# Altium integrated library NSC MiscPower.IntLib: 1417 symbols (part 39 of 39)
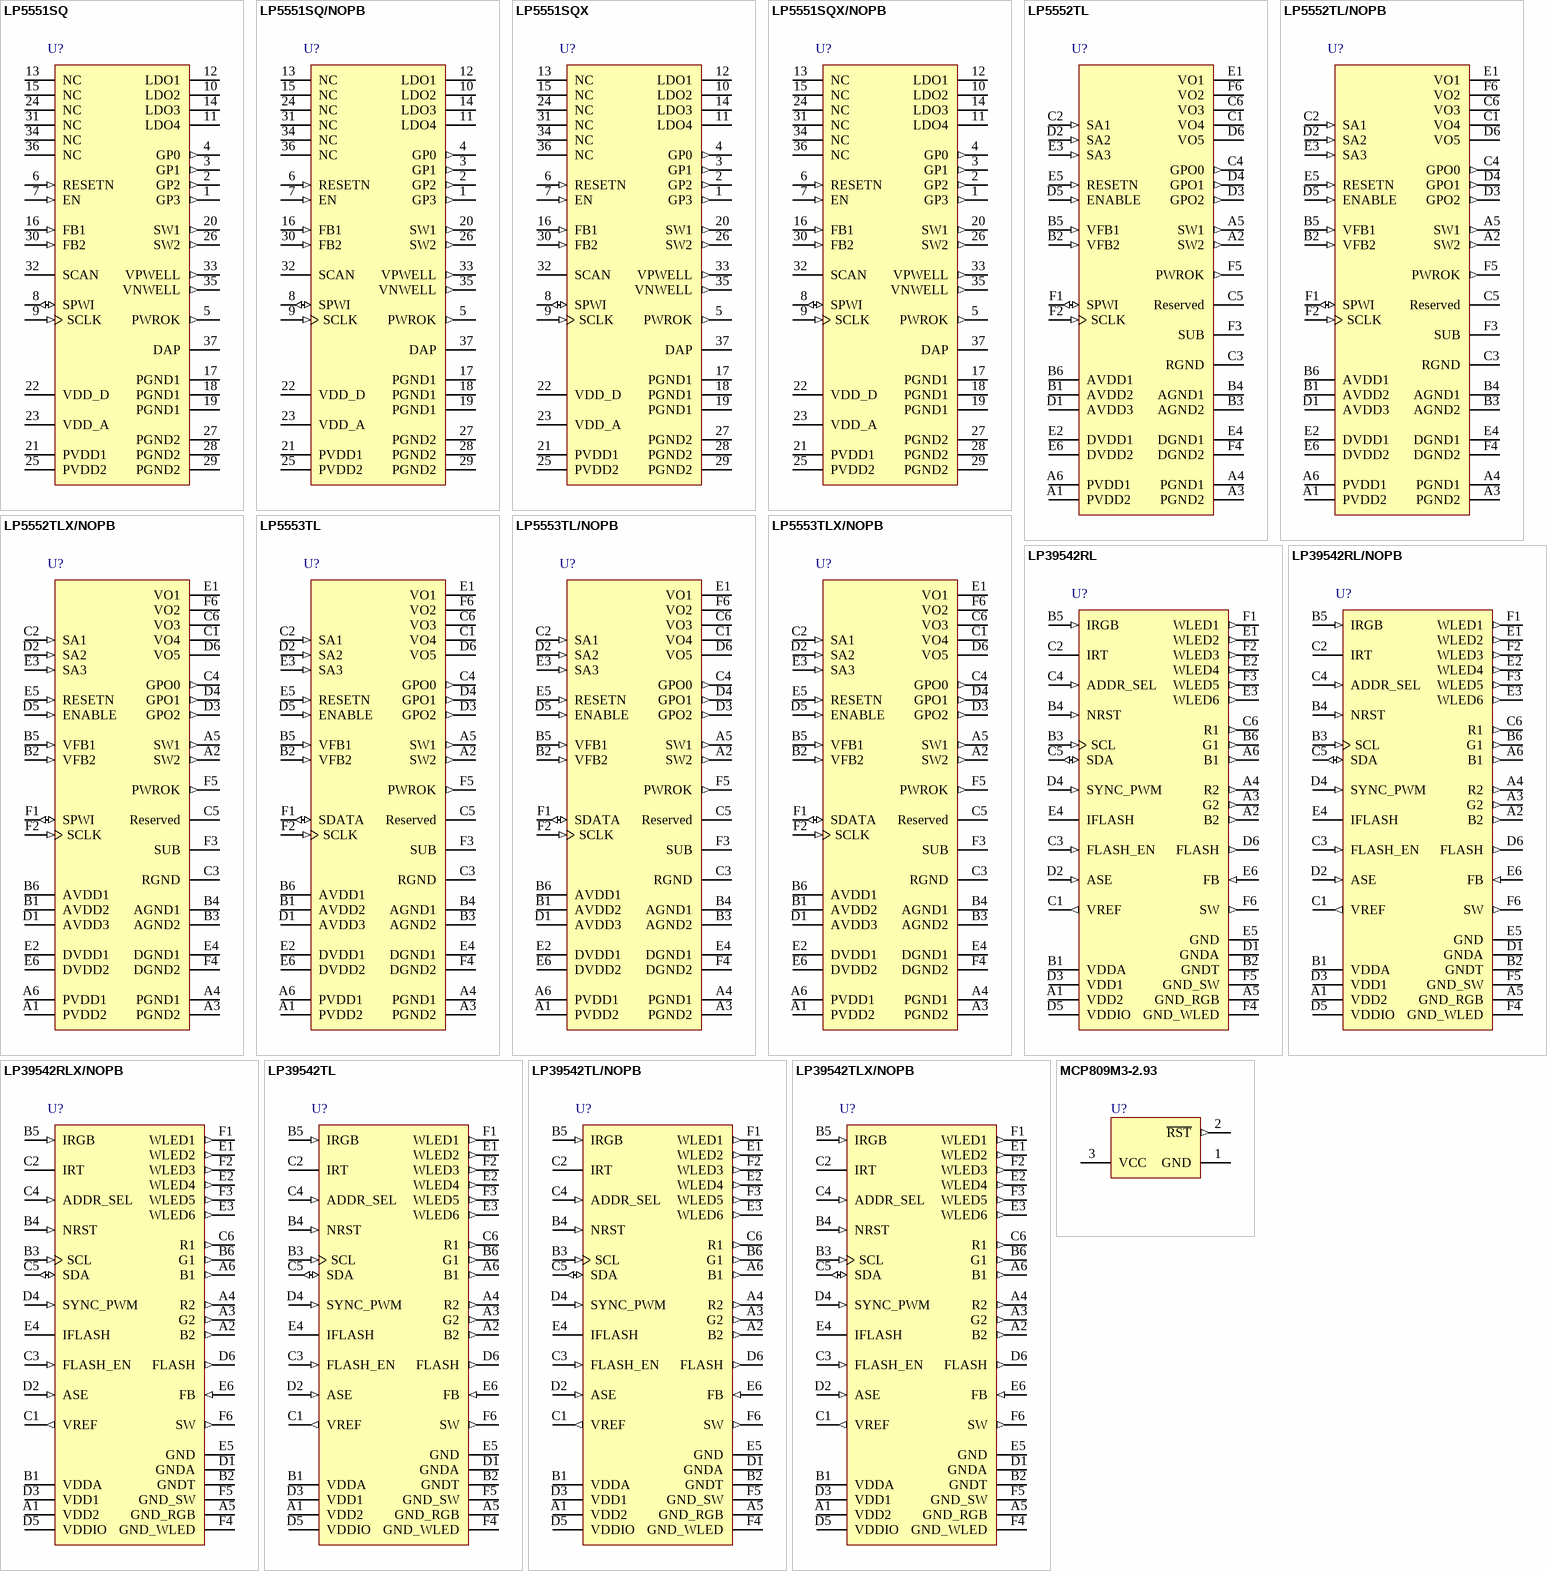
[diagram p89: symbols LP5551SQ to MCP809M3-2.93]

## LP39542TL/NOPB
designator U?
Advanced Lighting Management Unit, 36-pin Micro SMD, Pb-Free; PartNumber: LP39542TL/NOPB; Manufacturer: National Semiconductor; PackageTopMarking: XYTT*I D58B; PowerWise: Y; CompType: MiscPower; Published: 1-Mar-2010; DatasheetVersion: Aug-2007; PackageVersion: revC, Dec-2003; PackageReference: TLA36AAA; Publisher: Altium Limited; PackageDescription: Thin Micro SMD, 36 Bump (Large), 0.5mm Pitch; Supplier 1: Digi-Key; Supplier Part Number 1: LP39542TLTR-ND; Supplier 2: Digi-Key; Supplier Part Number 2: LP39542TLCT-ND; Supplier 3: Digi-Key; Supplier Part Number 3: LP39542TLDKR-ND; RoHS: Y; PinCount: 36; Code_JEDEC: MO-211-DK; ComponentLink1Description: LP39542 Datasheet; ComponentLink1URL: http://www.national.com/ds/LP/LP39542.pdf; ComponentLink2Description: LP39542 Web Page; ComponentLink2URL: http://www.national.com/pf/LP/LP39542.html; ComponentLink3Description: TLA36AAA Package Page; ComponentLink3URL: http://www.national.com/packaging/folders/tla36aaa.html
footprint TLA36AAA (Micro SMD, 36-Leads, Body 3x3mm, Pitch 0.5mm, NSC Recommended)
pins: A1 VDD2 (power), A2 B2 (out), A3 G2 (out), A4 R2 (out), A5 GND_RGB (power), A6 B1 (out), B1 VDDA (power), B2 GNDT (power), B3 SCL (in), B4 NRST (in), B5 IRGB (in), B6 G1 (out), C1 VREF (out), C2 IRT, C3 FLASH_EN (in), C4 ADDR_SEL (in), C5 SDA (io), C6 R1 (out), D1 GNDA (power), D2 ASE (in), D3 VDD1 (power), D4 SYNC_PWM (in), D5 VDDIO (power), D6 FLASH (out), E1 WLED2 (out), E2 WLED4 (out), E3 WLED6 (out), E4 IFLASH, E5 GND (power), E6 FB (in), F1 WLED1 (out), F2 WLED3 (out), F3 WLED5 (out), F4 GND_WLED (power), F5 GND_SW (power), F6 SW (out)

## LP39542TLX/NOPB
designator U?
Advanced Lighting Management Unit, 36-pin Micro SMD, Pb-Free; PartNumber: LP39542TLX/NOPB; Manufacturer: National Semiconductor; PackageTopMarking: XYTT*I D58B; PowerWise: Y; CompType: MiscPower; Published: 1-Mar-2010; DatasheetVersion: Aug-2007; PackageVersion: revC, Dec-2003; PackageReference: TLA36AAA; Publisher: Altium Limited; PackageDescription: Thin Micro SMD, 36 Bump (Large), 0.5mm Pitch; Supplier 1: Digi-Key; Supplier Part Number 1: LP39542TLX-ND; RoHS: Y; PinCount: 36; Code_JEDEC: MO-211-DK; ComponentLink1Description: LP39542 Datasheet; ComponentLink1URL: http://www.national.com/ds/LP/LP39542.pdf; ComponentLink2Description: LP39542 Web Page; ComponentLink2URL: http://www.national.com/pf/LP/LP39542.html; ComponentLink3Description: TLA36AAA Package Page; ComponentLink3URL: http://www.national.com/packaging/folders/tla36aaa.html
footprint TLA36AAA (Micro SMD, 36-Leads, Body 3x3mm, Pitch 0.5mm, NSC Recommended)
pins: A1 VDD2 (power), A2 B2 (out), A3 G2 (out), A4 R2 (out), A5 GND_RGB (power), A6 B1 (out), B1 VDDA (power), B2 GNDT (power), B3 SCL (in), B4 NRST (in), B5 IRGB (in), B6 G1 (out), C1 VREF (out), C2 IRT, C3 FLASH_EN (in), C4 ADDR_SEL (in), C5 SDA (io), C6 R1 (out), D1 GNDA (power), D2 ASE (in), D3 VDD1 (power), D4 SYNC_PWM (in), D5 VDDIO (power), D6 FLASH (out), E1 WLED2 (out), E2 WLED4 (out), E3 WLED6 (out), E4 IFLASH, E5 GND (power), E6 FB (in), F1 WLED1 (out), F2 WLED3 (out), F3 WLED5 (out), F4 GND_WLED (power), F5 GND_SW (power), F6 SW (out)

## MCP809M3-2.93
designator U?
Microprocessor Reset Circuit, 2.93V Threshold, 3-pin SOT-23; PartNumber: MCP809M3-2.93; Manufacturer: National Semiconductor; PackageTopMarking: SRB*XTT; PowerWise: N; CompType: MiscPower; Published: 29-May-2009; DatasheetVersion: Jun-2001; PackageVersion: revB, Mar-2003; PackageReference: MF03A; Publisher: Altium Limited; PackageDescription: Molded SOT-23, .115 x .051 x .037in Body, 3 Lead, .075 in Pitch; RoHS: N; PinCount: 3; ComponentLink1Description: MCP809 Datasheet; ComponentLink1URL: http://www.national.com/ds/MC/MCP809.pdf; ComponentLink2Description: MCP809 Web Page; ComponentLink2URL: http://www.national.com/pf/MC/MCP809.html; ComponentLink3Description: MF03A Package Page; ComponentLink3URL: http://www.national.com/packaging/folders/mf03a.html
footprint MF03A_N (SOT23, 3-Leads, Body 2.9x1.3mm, Pitch 0.95mm, Lead Span 2.4mm, IPC Medium Density)
footprint MF03A_L (SOT23, 3-Leads, Body 2.9x1.3mm, Pitch 0.95mm, Lead Span 2.4mm, IPC High Density)
footprint MF03A_M (SOT23, 3-Leads, Body 2.9x1.3mm, Pitch 0.95mm, Lead Span 2.4mm, IPC Low Density)
pins: 1 GND (power), 2 ~{RST} (out), 3 VCC (power)

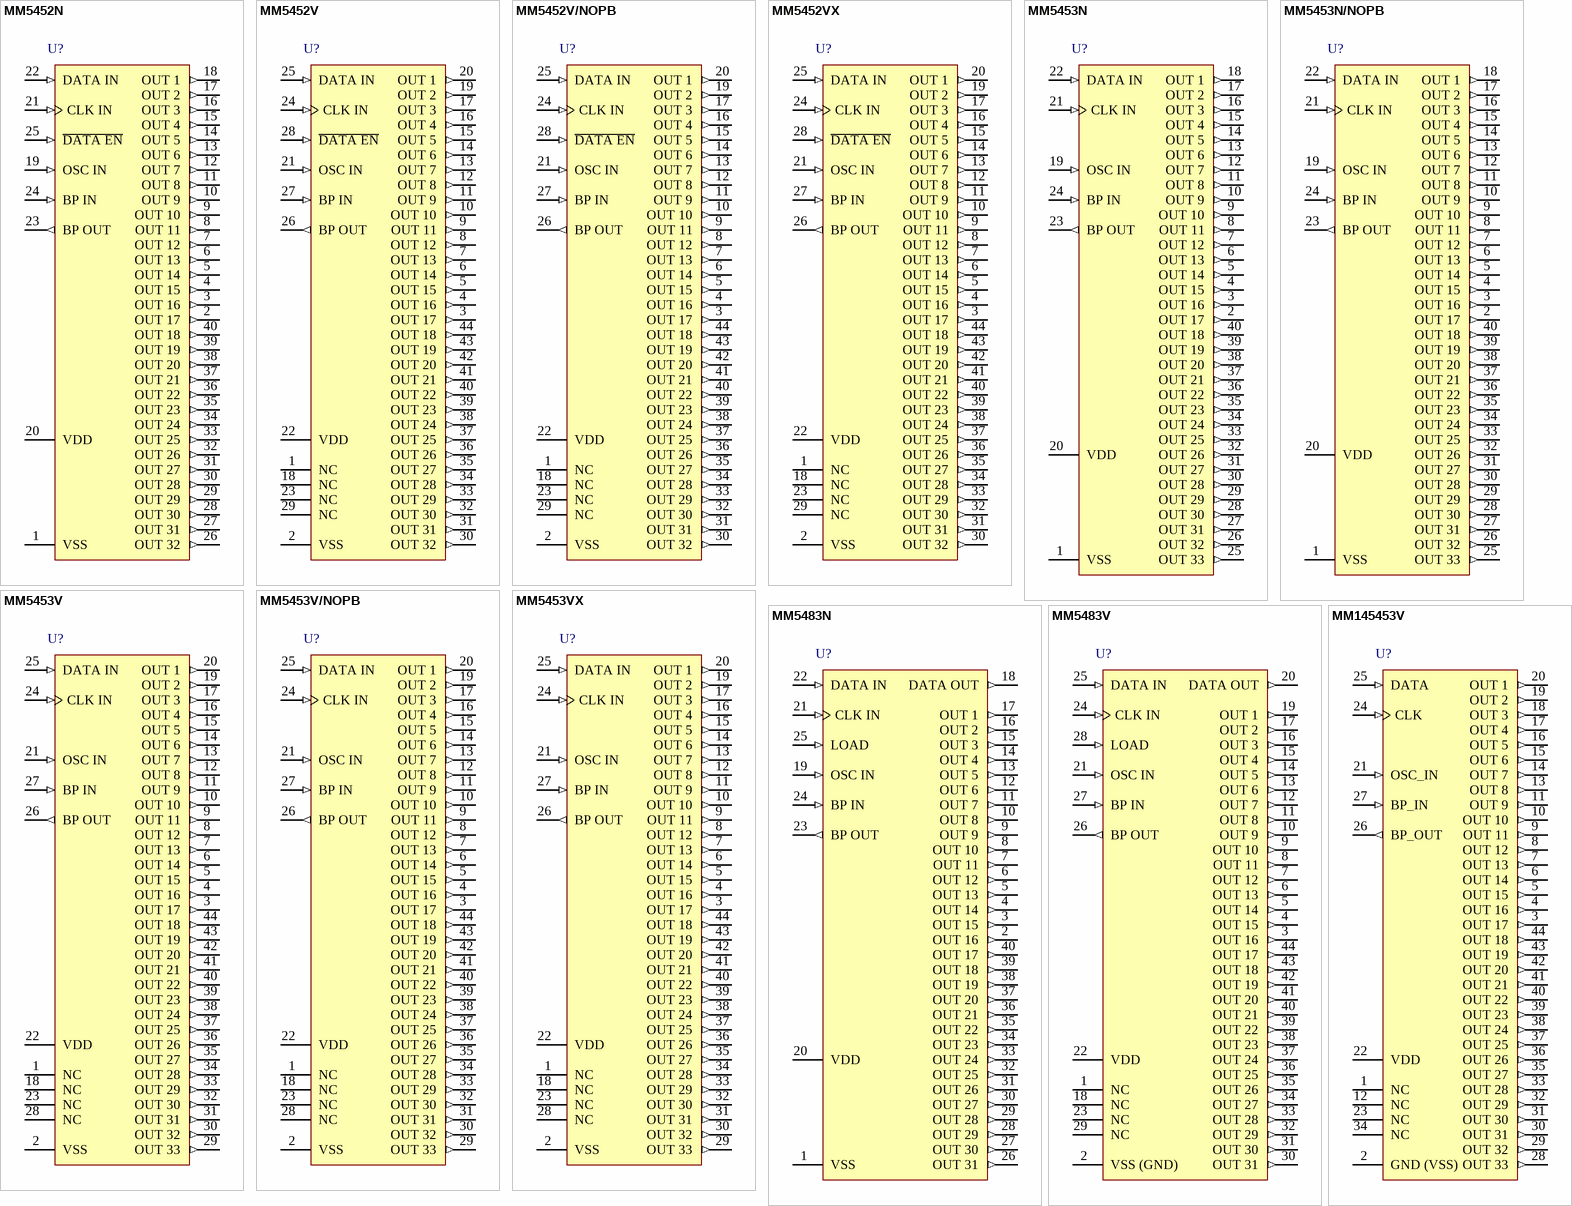
[diagram p50: symbols MM5452N to MM145453V]

## MM5452N
designator U?
Liquid Crystal Display Driver, 40-pin MDIP; PartNumber: MM5452N; Manufacturer: National Semiconductor; PackageTopMarking: NSUZXYYTTE#*MM5452N; PowerWise: N; CompType: MiscPower; Published: 4-Dec-2008; DatasheetVersion: Dec-2008; PackageVersion: revE, Nov-1983; PackageReference: N40A; Publisher: Altium Limited; PackageDescription: 40 Lead Molded Dip (N); Supplier 1: Farnell; Supplier Part Number 1: 1215186; RoHS: N; PinCount: 40; ComponentLink1Description: MM5452 Datasheet; ComponentLink1URL: http://www.national.com/ds/MM/MM5452.pdf; ComponentLink2Description: MM5452 Web Page; ComponentLink2URL: http://www.national.com/pf/MM/MM5452.html; ComponentLink3Description: N40A Package Page; ComponentLink3URL: http://www.national.com/packaging/folders/n40a.html
footprint N40A (DIP, 40-Leads, Row Spacing 15.24mm, Pitch 2.54mm, Body 52.24x13.97mm)
pins: 1 VSS (power), 2 OUT 17 (out), 3 OUT 16 (out), 4 OUT 15 (out), 5 OUT 14 (out), 6 OUT 13 (out), 7 OUT 12 (out), 8 OUT 11 (out), 9 OUT 10 (out), 10 OUT 9 (out), 11 OUT 8 (out), 12 OUT 7 (out), 13 OUT 6 (out), 14 OUT 5 (out), 15 OUT 4 (out), 16 OUT 3 (out), 17 OUT 2 (out), 18 OUT 1 (out), 19 OSC IN (in), 20 VDD (power), 21 CLK IN (in), 22 DATA IN (in), 23 BP OUT (out), 24 BP IN (in), 25 ~{DATA EN} (in), 26 OUT 32 (out), 27 OUT 31 (out), 28 OUT 30 (out), 29 OUT 29 (out), 30 OUT 28 (out), 31 OUT 27 (out), 32 OUT 26 (out), 33 OUT 25 (out), 34 OUT 24 (out), 35 OUT 23 (out), 36 OUT 22 (out), 37 OUT 21 (out), 38 OUT 20 (out), 39 OUT 19 (out), 40 OUT 18 (out)

## MM5452V
designator U?
Liquid Crystal Display Driver, 44-pin PLCC; PartNumber: MM5452V; Manufacturer: National Semiconductor; PackageTopMarking: NSUZXYYTTE#*MM5452V; PowerWise: N; CompType: MiscPower; Published: 4-Dec-2008; DatasheetVersion: Dec-2008; PackageVersion: revK, Dec-1993; PackageReference: V44A; Publisher: Altium Limited; PackageDescription: Plastic Chip Carrier, Sq, .050in Pitch, 44 Lead; Supplier 1: Farnell; Supplier Part Number 1: 9493859; RoHS: N; PinCount: 44; Code_IPC: PLCC-44; ComponentLink1Description: MM5452 Datasheet; ComponentLink1URL: http://www.national.com/ds/MM/MM5452.pdf; ComponentLink2Description: MM5452 Web Page; ComponentLink2URL: http://www.national.com/pf/MM/MM5452.html; ComponentLink3Description: V44A Package Page; ComponentLink3URL: http://www.national.com/packaging/folders/v44a.html
footprint V44A_N (Leaded Chip Carrier, 44-Leads, Body 16.6x16.6mm, Pitch 1.27mm, IPC Medium Density)
footprint V44A_L (Leaded Chip Carrier, 44-Leads, Body 16.6x16.6mm, Pitch 1.27mm, IPC High Density)
footprint V44A_M (Leaded Chip Carrier, 44-Leads, Body 16.6x16.6mm, Pitch 1.27mm, IPC Low Density)
pins: 1 NC, 2 VSS (power), 3 OUT 17 (out), 4 OUT 16 (out), 5 OUT 15 (out), 6 OUT 14 (out), 7 OUT 13 (out), 8 OUT 12 (out), 9 OUT 11 (out), 10 OUT 10 (out), 11 OUT 9 (out), 12 OUT 8 (out), 13 OUT 7 (out), 14 OUT 6 (out), 15 OUT 5 (out), 16 OUT 4 (out), 17 OUT 3 (out), 18 NC, 19 OUT 2 (out), 20 OUT 1 (out), 21 OSC IN (in), 22 VDD (power), 23 NC, 24 CLK IN (in), 25 DATA IN (in), 26 BP OUT (out), 27 BP IN (in), 28 ~{DATA EN} (in), 29 NC, 30 OUT 32 (out), 31 OUT 31 (out), 32 OUT 30 (out), 33 OUT 29 (out), 34 OUT 28 (out), 35 OUT 27 (out), 36 OUT 26 (out), 37 OUT 25 (out), 38 OUT 24 (out), 39 OUT 23 (out), 40 OUT 22 (out), 41 OUT 21 (out), 42 OUT 20 (out), 43 OUT 19 (out), 44 OUT 18 (out)

## MM5452V/NOPB
designator U?
Liquid Crystal Display Drivers, 44-pin PLCC, Pb-Free; PartNumber: MM5452V/NOPB; Manufacturer: National Semiconductor; PackageTopMarking: NSUZXYYTTE#*MM5452V; PowerWise: N; CompType: MiscPower; Published: 1-Mar-2010; DatasheetVersion: Dec-2008; PackageVersion: revK, Dec-1993; PackageReference: V44A; Publisher: Altium Limited; PackageDescription: Plastic Chip Carrier, Sq, .050in Pitch, 44 Lead; Supplier 1: Digi-Key; Supplier Part Number 1: MM5452V-ND; RoHS: Y; PinCount: 44; Code_IPC: PLCC-44; ComponentLink1Description: MM5452 Datasheet; ComponentLink1URL: http://www.national.com/ds/MM/MM5452.pdf; ComponentLink2Description: MM5452 Web Page; ComponentLink2URL: http://www.national.com/pf/MM/MM5452.html; ComponentLink3Description: V44A Package Page; ComponentLink3URL: http://www.national.com/packaging/folders/v44a.html
footprint V44A_N (Leaded Chip Carrier, 44-Leads, Body 16.6x16.6mm, Pitch 1.27mm, IPC Medium Density)
footprint V44A_L (Leaded Chip Carrier, 44-Leads, Body 16.6x16.6mm, Pitch 1.27mm, IPC High Density)
footprint V44A_M (Leaded Chip Carrier, 44-Leads, Body 16.6x16.6mm, Pitch 1.27mm, IPC Low Density)
pins: 1 NC, 2 VSS (power), 3 OUT 17 (out), 4 OUT 16 (out), 5 OUT 15 (out), 6 OUT 14 (out), 7 OUT 13 (out), 8 OUT 12 (out), 9 OUT 11 (out), 10 OUT 10 (out), 11 OUT 9 (out), 12 OUT 8 (out), 13 OUT 7 (out), 14 OUT 6 (out), 15 OUT 5 (out), 16 OUT 4 (out), 17 OUT 3 (out), 18 NC, 19 OUT 2 (out), 20 OUT 1 (out), 21 OSC IN (in), 22 VDD (power), 23 NC, 24 CLK IN (in), 25 DATA IN (in), 26 BP OUT (out), 27 BP IN (in), 28 ~{DATA EN} (in), 29 NC, 30 OUT 32 (out), 31 OUT 31 (out), 32 OUT 30 (out), 33 OUT 29 (out), 34 OUT 28 (out), 35 OUT 27 (out), 36 OUT 26 (out), 37 OUT 25 (out), 38 OUT 24 (out), 39 OUT 23 (out), 40 OUT 22 (out), 41 OUT 21 (out), 42 OUT 20 (out), 43 OUT 19 (out), 44 OUT 18 (out)

## MM5452VX
designator U?
Liquid Crystal Display Drivers, 44-pin PLCC; PartNumber: MM5452VX; Manufacturer: National Semiconductor; PackageTopMarking: NSUZXYYTTE#*MM5452V; PowerWise: N; CompType: MiscPower; Published: 1-Mar-2010; DatasheetVersion: Dec-2008; PackageVersion: revK, Dec-1993; PackageReference: V44A; Publisher: Altium Limited; PackageDescription: Plastic Chip Carrier, Sq, .050in Pitch, 44 Lead; RoHS: N; PinCount: 44; Code_IPC: PLCC-44; ComponentLink1Description: MM5452 Datasheet; ComponentLink1URL: http://www.national.com/ds/MM/MM5452.pdf; ComponentLink2Description: MM5452 Web Page; ComponentLink2URL: http://www.national.com/pf/MM/MM5452.html; ComponentLink3Description: V44A Package Page; ComponentLink3URL: http://www.national.com/packaging/folders/v44a.html
footprint V44A_N (Leaded Chip Carrier, 44-Leads, Body 16.6x16.6mm, Pitch 1.27mm, IPC Medium Density)
footprint V44A_L (Leaded Chip Carrier, 44-Leads, Body 16.6x16.6mm, Pitch 1.27mm, IPC High Density)
footprint V44A_M (Leaded Chip Carrier, 44-Leads, Body 16.6x16.6mm, Pitch 1.27mm, IPC Low Density)
pins: 1 NC, 2 VSS (power), 3 OUT 17 (out), 4 OUT 16 (out), 5 OUT 15 (out), 6 OUT 14 (out), 7 OUT 13 (out), 8 OUT 12 (out), 9 OUT 11 (out), 10 OUT 10 (out), 11 OUT 9 (out), 12 OUT 8 (out), 13 OUT 7 (out), 14 OUT 6 (out), 15 OUT 5 (out), 16 OUT 4 (out), 17 OUT 3 (out), 18 NC, 19 OUT 2 (out), 20 OUT 1 (out), 21 OSC IN (in), 22 VDD (power), 23 NC, 24 CLK IN (in), 25 DATA IN (in), 26 BP OUT (out), 27 BP IN (in), 28 ~{DATA EN} (in), 29 NC, 30 OUT 32 (out), 31 OUT 31 (out), 32 OUT 30 (out), 33 OUT 29 (out), 34 OUT 28 (out), 35 OUT 27 (out), 36 OUT 26 (out), 37 OUT 25 (out), 38 OUT 24 (out), 39 OUT 23 (out), 40 OUT 22 (out), 41 OUT 21 (out), 42 OUT 20 (out), 43 OUT 19 (out), 44 OUT 18 (out)

## MM5453N
designator U?
Liquid Crystal Display Driver, 40-pin MDIP; PartNumber: MM5453N; Manufacturer: National Semiconductor; PackageTopMarking: NSUZXYYTTE#*MM5453N; PowerWise: N; CompType: MiscPower; Published: 4-Dec-2008; DatasheetVersion: Dec-2008; PackageVersion: revE, Nov-1983; PackageReference: N40A; Publisher: Altium Limited; PackageDescription: 40 Lead Molded Dip (N); Supplier 1: Farnell; Supplier Part Number 1: 1523838; Supplier 2: Farnell; Supplier Part Number 2: 9487808; RoHS: N; PinCount: 40; ComponentLink1Description: MM5453 Datasheet; ComponentLink1URL: http://www.national.com/ds/MM/MM5453.pdf; ComponentLink2Description: MM5453 Web Page; ComponentLink2URL: http://www.national.com/pf/MM/MM5453.html; ComponentLink3Description: N40A Package Page; ComponentLink3URL: http://www.national.com/packaging/folders/n40a.html
footprint N40A (DIP, 40-Leads, Row Spacing 15.24mm, Pitch 2.54mm, Body 52.24x13.97mm)
pins: 1 VSS (power), 2 OUT 17 (out), 3 OUT 16 (out), 4 OUT 15 (out), 5 OUT 14 (out), 6 OUT 13 (out), 7 OUT 12 (out), 8 OUT 11 (out), 9 OUT 10 (out), 10 OUT 9 (out), 11 OUT 8 (out), 12 OUT 7 (out), 13 OUT 6 (out), 14 OUT 5 (out), 15 OUT 4 (out), 16 OUT 3 (out), 17 OUT 2 (out), 18 OUT 1 (out), 19 OSC IN (in), 20 VDD (power), 21 CLK IN (in), 22 DATA IN (in), 23 BP OUT (out), 24 BP IN (in), 25 OUT 33 (out), 26 OUT 32 (out), 27 OUT 31 (out), 28 OUT 30 (out), 29 OUT 29 (out), 30 OUT 28 (out), 31 OUT 27 (out), 32 OUT 26 (out), 33 OUT 25 (out), 34 OUT 24 (out), 35 OUT 23 (out), 36 OUT 22 (out), 37 OUT 21 (out), 38 OUT 20 (out), 39 OUT 19 (out), 40 OUT 18 (out)

## MM5453N/NOPB
designator U?
Liquid Crystal Display Drivers, 40-pin MDIP, Pb-Free; PartNumber: MM5453N/NOPB; Manufacturer: National Semiconductor; PackageTopMarking: NSUZXYYTTE#*MM5453N; PowerWise: N; CompType: MiscPower; Published: 1-Mar-2010; DatasheetVersion: Dec-2008; PackageVersion: revE, Nov-1983; PackageReference: N40A; Publisher: Altium Limited; PackageDescription: 40 Lead Molded Dip (N); Supplier 1: Digi-Key; Supplier Part Number 1: MM5453N-ND; Supplier 2: Farnell; Supplier Part Number 2: 1564709; RoHS: Y; PinCount: 40; ComponentLink1Description: MM5453 Datasheet; ComponentLink1URL: http://www.national.com/ds/MM/MM5453.pdf; ComponentLink2Description: MM5453 Web Page; ComponentLink2URL: http://www.national.com/pf/MM/MM5453.html; ComponentLink3Description: N40A Package Page; ComponentLink3URL: http://www.national.com/packaging/folders/n40a.html
footprint N40A (DIP, 40-Leads, Row Spacing 15.24mm, Pitch 2.54mm, Body 52.24x13.97mm)
pins: 1 VSS (power), 2 OUT 17 (out), 3 OUT 16 (out), 4 OUT 15 (out), 5 OUT 14 (out), 6 OUT 13 (out), 7 OUT 12 (out), 8 OUT 11 (out), 9 OUT 10 (out), 10 OUT 9 (out), 11 OUT 8 (out), 12 OUT 7 (out), 13 OUT 6 (out), 14 OUT 5 (out), 15 OUT 4 (out), 16 OUT 3 (out), 17 OUT 2 (out), 18 OUT 1 (out), 19 OSC IN (in), 20 VDD (power), 21 CLK IN (in), 22 DATA IN (in), 23 BP OUT (out), 24 BP IN (in), 25 OUT 33 (out), 26 OUT 32 (out), 27 OUT 31 (out), 28 OUT 30 (out), 29 OUT 29 (out), 30 OUT 28 (out), 31 OUT 27 (out), 32 OUT 26 (out), 33 OUT 25 (out), 34 OUT 24 (out), 35 OUT 23 (out), 36 OUT 22 (out), 37 OUT 21 (out), 38 OUT 20 (out), 39 OUT 19 (out), 40 OUT 18 (out)

## MM5453V
designator U?
Liquid Crystal Display Driver, 44-pin PLCC; PartNumber: MM5453V; Manufacturer: National Semiconductor; PackageTopMarking: NSUZXYYTTE#*MM5453V; PowerWise: N; CompType: MiscPower; Published: 4-Dec-2008; DatasheetVersion: Dec-2008; PackageVersion: revK, Dec-1993; PackageReference: V44A; Publisher: Altium Limited; PackageDescription: Plastic Chip Carrier, Sq, .050in Pitch, 44 Lead; RoHS: N; PinCount: 44; Code_IPC: PLCC-44; ComponentLink1Description: MM5453 Datasheet; ComponentLink1URL: http://www.national.com/ds/MM/MM5453.pdf; ComponentLink2Description: MM5453 Web Page; ComponentLink2URL: http://www.national.com/pf/MM/MM5453.html; ComponentLink3Description: V44A Package Page; ComponentLink3URL: http://www.national.com/packaging/folders/v44a.html
footprint V44A_N (Leaded Chip Carrier, 44-Leads, Body 16.6x16.6mm, Pitch 1.27mm, IPC Medium Density)
footprint V44A_L (Leaded Chip Carrier, 44-Leads, Body 16.6x16.6mm, Pitch 1.27mm, IPC High Density)
footprint V44A_M (Leaded Chip Carrier, 44-Leads, Body 16.6x16.6mm, Pitch 1.27mm, IPC Low Density)
pins: 1 NC, 2 VSS (power), 3 OUT 17 (out), 4 OUT 16 (out), 5 OUT 15 (out), 6 OUT 14 (out), 7 OUT 13 (out), 8 OUT 12 (out), 9 OUT 11 (out), 10 OUT 10 (out), 11 OUT 9 (out), 12 OUT 8 (out), 13 OUT 7 (out), 14 OUT 6 (out), 15 OUT 5 (out), 16 OUT 4 (out), 17 OUT 3 (out), 18 NC, 19 OUT 2 (out), 20 OUT 1 (out), 21 OSC IN (in), 22 VDD (power), 23 NC, 24 CLK IN (in), 25 DATA IN (in), 26 BP OUT (out), 27 BP IN (in), 28 NC, 29 OUT 33 (out), 30 OUT 32 (out), 31 OUT 31 (out), 32 OUT 30 (out), 33 OUT 29 (out), 34 OUT 28 (out), 35 OUT 27 (out), 36 OUT 26 (out), 37 OUT 25 (out), 38 OUT 24 (out), 39 OUT 23 (out), 40 OUT 22 (out), 41 OUT 21 (out), 42 OUT 20 (out), 43 OUT 19 (out), 44 OUT 18 (out)

## MM5453V/NOPB
designator U?
Liquid Crystal Display Drivers, 44-pin PLCC, Pb-Free; PartNumber: MM5453V/NOPB; Manufacturer: National Semiconductor; PackageTopMarking: NSUZXYYTTE#*MM5453V; PowerWise: N; CompType: MiscPower; Published: 1-Mar-2010; DatasheetVersion: Dec-2008; PackageVersion: revK, Dec-1993; PackageReference: V44A; Publisher: Altium Limited; PackageDescription: Plastic Chip Carrier, Sq, .050in Pitch, 44 Lead; Supplier 1: Digi-Key; Supplier Part Number 1: MM5453V-ND; Supplier 2: Farnell; Supplier Part Number 2: 1694577; RoHS: Y; PinCount: 44; Code_IPC: PLCC-44; ComponentLink1Description: MM5453 Datasheet; ComponentLink1URL: http://www.national.com/ds/MM/MM5453.pdf; ComponentLink2Description: MM5453 Web Page; ComponentLink2URL: http://www.national.com/pf/MM/MM5453.html; ComponentLink3Description: V44A Package Page; ComponentLink3URL: http://www.national.com/packaging/folders/v44a.html
footprint V44A_N (Leaded Chip Carrier, 44-Leads, Body 16.6x16.6mm, Pitch 1.27mm, IPC Medium Density)
footprint V44A_L (Leaded Chip Carrier, 44-Leads, Body 16.6x16.6mm, Pitch 1.27mm, IPC High Density)
footprint V44A_M (Leaded Chip Carrier, 44-Leads, Body 16.6x16.6mm, Pitch 1.27mm, IPC Low Density)
pins: 1 NC, 2 VSS (power), 3 OUT 17 (out), 4 OUT 16 (out), 5 OUT 15 (out), 6 OUT 14 (out), 7 OUT 13 (out), 8 OUT 12 (out), 9 OUT 11 (out), 10 OUT 10 (out), 11 OUT 9 (out), 12 OUT 8 (out), 13 OUT 7 (out), 14 OUT 6 (out), 15 OUT 5 (out), 16 OUT 4 (out), 17 OUT 3 (out), 18 NC, 19 OUT 2 (out), 20 OUT 1 (out), 21 OSC IN (in), 22 VDD (power), 23 NC, 24 CLK IN (in), 25 DATA IN (in), 26 BP OUT (out), 27 BP IN (in), 28 NC, 29 OUT 33 (out), 30 OUT 32 (out), 31 OUT 31 (out), 32 OUT 30 (out), 33 OUT 29 (out), 34 OUT 28 (out), 35 OUT 27 (out), 36 OUT 26 (out), 37 OUT 25 (out), 38 OUT 24 (out), 39 OUT 23 (out), 40 OUT 22 (out), 41 OUT 21 (out), 42 OUT 20 (out), 43 OUT 19 (out), 44 OUT 18 (out)

## MM5453VX
designator U?
Liquid Crystal Display Drivers, 44-pin PLCC; PartNumber: MM5453VX; Manufacturer: National Semiconductor; PackageTopMarking: NSUZXYYTTE#*MM5453V; PowerWise: N; CompType: MiscPower; Published: 1-Mar-2010; DatasheetVersion: Dec-2008; PackageVersion: revK, Dec-1993; PackageReference: V44A; Publisher: Altium Limited; PackageDescription: Plastic Chip Carrier, Sq, .050in Pitch, 44 Lead; RoHS: N; PinCount: 44; Code_IPC: PLCC-44; ComponentLink1Description: MM5453 Datasheet; ComponentLink1URL: http://www.national.com/ds/MM/MM5453.pdf; ComponentLink2Description: MM5453 Web Page; ComponentLink2URL: http://www.national.com/pf/MM/MM5453.html; ComponentLink3Description: V44A Package Page; ComponentLink3URL: http://www.national.com/packaging/folders/v44a.html
footprint V44A_N (Leaded Chip Carrier, 44-Leads, Body 16.6x16.6mm, Pitch 1.27mm, IPC Medium Density)
footprint V44A_L (Leaded Chip Carrier, 44-Leads, Body 16.6x16.6mm, Pitch 1.27mm, IPC High Density)
footprint V44A_M (Leaded Chip Carrier, 44-Leads, Body 16.6x16.6mm, Pitch 1.27mm, IPC Low Density)
pins: 1 NC, 2 VSS (power), 3 OUT 17 (out), 4 OUT 16 (out), 5 OUT 15 (out), 6 OUT 14 (out), 7 OUT 13 (out), 8 OUT 12 (out), 9 OUT 11 (out), 10 OUT 10 (out), 11 OUT 9 (out), 12 OUT 8 (out), 13 OUT 7 (out), 14 OUT 6 (out), 15 OUT 5 (out), 16 OUT 4 (out), 17 OUT 3 (out), 18 NC, 19 OUT 2 (out), 20 OUT 1 (out), 21 OSC IN (in), 22 VDD (power), 23 NC, 24 CLK IN (in), 25 DATA IN (in), 26 BP OUT (out), 27 BP IN (in), 28 NC, 29 OUT 33 (out), 30 OUT 32 (out), 31 OUT 31 (out), 32 OUT 30 (out), 33 OUT 29 (out), 34 OUT 28 (out), 35 OUT 27 (out), 36 OUT 26 (out), 37 OUT 25 (out), 38 OUT 24 (out), 39 OUT 23 (out), 40 OUT 22 (out), 41 OUT 21 (out), 42 OUT 20 (out), 43 OUT 19 (out), 44 OUT 18 (out)

## MM5483N
designator U?
Liquid Crystal Display Driver, 40-pin MDIP; PartNumber: MM5483N; Manufacturer: National Semiconductor; PackageTopMarking: NSUZXYYTTE#*MM5483N; PowerWise: N; CompType: MiscPower; Published: 4-Dec-2008; DatasheetVersion: Dec-2008; PackageVersion: revE, Nov-1983; PackageReference: N40A; Publisher: Altium Limited; PackageDescription: 40 Lead Molded Dip (N); RoHS: N; PinCount: 40; ComponentLink1Description: MM5483 Datasheet; ComponentLink1URL: http://www.national.com/ds/MM/MM5483.pdf; ComponentLink2Description: MM5483 Web Page; ComponentLink2URL: http://www.national.com/pf/MM/MM5483.html; ComponentLink3Description: N40A Package Page; ComponentLink3URL: http://www.national.com/packaging/folders/n40a.html
footprint N40A (DIP, 40-Leads, Row Spacing 15.24mm, Pitch 2.54mm, Body 52.24x13.97mm)
pins: 1 VSS (power), 2 OUT 16 (out), 3 OUT 15 (out), 4 OUT 14 (out), 5 OUT 13 (out), 6 OUT 12 (out), 7 OUT 11 (out), 8 OUT 10 (out), 9 OUT 9 (out), 10 OUT 8 (out), 11 OUT 7 (out), 12 OUT 6 (out), 13 OUT 5 (out), 14 OUT 4 (out), 15 OUT 3 (out), 16 OUT 2 (out), 17 OUT 1 (out), 18 DATA OUT (out), 19 OSC IN (in), 20 VDD (power), 21 CLK IN (in), 22 DATA IN (in), 23 BP OUT (out), 24 BP IN (in), 25 LOAD (in), 26 OUT 31 (out), 27 OUT 30 (out), 28 OUT 29 (out), 29 OUT 28 (out), 30 OUT 27 (out), 31 OUT 26 (out), 32 OUT 25 (out), 33 OUT 24 (out), 34 OUT 23 (out), 35 OUT 22 (out), 36 OUT 21 (out), 37 OUT 20 (out), 38 OUT 19 (out), 39 OUT 18 (out), 40 OUT 17 (out)

## MM5483V
designator U?
Liquid Crystal Display Driver, 44-pin PLCC; PartNumber: MM5483V; Manufacturer: National Semiconductor; PackageTopMarking: NSUZXYYTTE#*MM5483V; PowerWise: N; CompType: MiscPower; Published: 4-Dec-2008; DatasheetVersion: Dec-2008; PackageVersion: revK, Dec-1993; PackageReference: V44A; Publisher: Altium Limited; PackageDescription: Plastic Chip Carrier, Sq, .050in Pitch, 44 Lead; RoHS: N; PinCount: 44; Code_IPC: PLCC-44; ComponentLink1Description: MM5483 Datasheet; ComponentLink1URL: http://www.national.com/ds/MM/MM5483.pdf; ComponentLink2Description: MM5483 Web Page; ComponentLink2URL: http://www.national.com/pf/MM/MM5483.html; ComponentLink3Description: V44A Package Page; ComponentLink3URL: http://www.national.com/packaging/folders/v44a.html
footprint V44A_N (Leaded Chip Carrier, 44-Leads, Body 16.6x16.6mm, Pitch 1.27mm, IPC Medium Density)
footprint V44A_L (Leaded Chip Carrier, 44-Leads, Body 16.6x16.6mm, Pitch 1.27mm, IPC High Density)
footprint V44A_M (Leaded Chip Carrier, 44-Leads, Body 16.6x16.6mm, Pitch 1.27mm, IPC Low Density)
pins: 1 NC, 2 VSS (GND) (power), 3 OUT 16 (out), 4 OUT 15 (out), 5 OUT 14 (out), 6 OUT 13 (out), 7 OUT 12 (out), 8 OUT 11 (out), 9 OUT 10 (out), 10 OUT 9 (out), 11 OUT 8 (out), 12 OUT 7 (out), 13 OUT 6 (out), 14 OUT 5 (out), 15 OUT 4 (out), 16 OUT 3 (out), 17 OUT 2 (out), 18 NC, 19 OUT 1 (out), 20 DATA OUT (out), 21 OSC IN (in), 22 VDD (power), 23 NC, 24 CLK IN (in), 25 DATA IN (in), 26 BP OUT (out), 27 BP IN (in), 28 LOAD (in), 29 NC, 30 OUT 31 (out), 31 OUT 30 (out), 32 OUT 29 (out), 33 OUT 28 (out), 34 OUT 27 (out), 35 OUT 26 (out), 36 OUT 25 (out), 37 OUT 24 (out), 38 OUT 23 (out), 39 OUT 22 (out), 40 OUT 21 (out), 41 OUT 20 (out), 42 OUT 19 (out), 43 OUT 18 (out), 44 OUT 17 (out)

## MM145453V
designator U?
Liquid Crystal Display Driver, 44-pin PLCC; PartNumber: MM145453V; Manufacturer: National Semiconductor; PackageTopMarking: NSUZXYYTTE#*MM145453V; PowerWise: N; CompType: MiscPower; Published: 4-Dec-2008; DatasheetVersion: May-2000; PackageVersion: revK, Dec-1993; PackageReference: V44A; Publisher: Altium Limited; PackageDescription: Plastic Chip Carrier, Sq, .050in Pitch, 44 Lead; Supplier 1: Digi-Key; Supplier Part Number 1: MM145453V-ND; RoHS: N; PinCount: 44; Code_IPC: PLCC-44; ComponentLink1Description: MM145453 Datasheet; ComponentLink1URL: http://www.national.com/ds/MM/MM145453.pdf; ComponentLink2Description: MM145453 Web Page; ComponentLink2URL: http://www.national.com/pf/MM/MM145453.html; ComponentLink3Description: V44A Package Page; ComponentLink3URL: http://www.national.com/packaging/folders/v44a.html
footprint V44A_N (Leaded Chip Carrier, 44-Leads, Body 16.6x16.6mm, Pitch 1.27mm, IPC Medium Density)
footprint V44A_L (Leaded Chip Carrier, 44-Leads, Body 16.6x16.6mm, Pitch 1.27mm, IPC High Density)
footprint V44A_M (Leaded Chip Carrier, 44-Leads, Body 16.6x16.6mm, Pitch 1.27mm, IPC Low Density)
pins: 1 NC, 2 GND (VSS) (power), 3 OUT 17 (out), 4 OUT 16 (out), 5 OUT 15 (out), 6 OUT 14 (out), 7 OUT 13 (out), 8 OUT 12 (out), 9 OUT 11 (out), 10 OUT 10 (out), 11 OUT 9 (out), 12 NC, 13 OUT 8 (out), 14 OUT 7 (out), 15 OUT 6 (out), 16 OUT 5 (out), 17 OUT 4 (out), 18 OUT 3 (out), 19 OUT 2 (out), 20 OUT 1 (out), 21 OSC_IN (in), 22 VDD (power), 23 NC, 24 CLK (in), 25 DATA (in), 26 BP_OUT (out), 27 BP_IN (in), 28 OUT 33 (out), 29 OUT 32 (out), 30 OUT 31 (out), 31 OUT 30 (out), 32 OUT 29 (out), 33 OUT 28 (out), 34 NC, 35 OUT 27 (out), 36 OUT 26 (out), 37 OUT 25 (out), 38 OUT 24 (out), 39 OUT 23 (out), 40 OUT 22 (out), 41 OUT 21 (out), 42 OUT 20 (out), 43 OUT 19 (out), 44 OUT 18 (out)

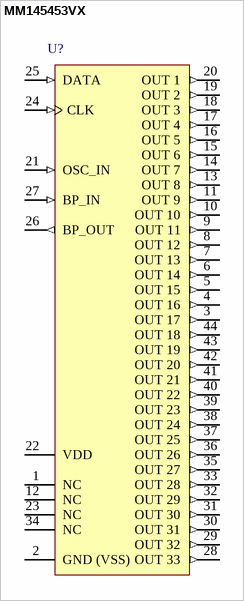
[diagram p51: symbol MM145453VX]

## MM145453VX
designator U?
Liquid Crystal Display Driver, 44-pin PLCC; PartNumber: MM145453VX; Manufacturer: National Semiconductor; PackageTopMarking: NSUZXYYTTE#*MM145453V; PowerWise: N; CompType: MiscPower; Published: 1-Mar-2010; DatasheetVersion: May-2000; PackageVersion: revK, Dec-1993; PackageReference: V44A; Publisher: Altium Limited; PackageDescription: Plastic Chip Carrier, Sq, .050in Pitch, 44 Lead; Supplier 1: Digi-Key; Supplier Part Number 1: MM145453VXTR-ND; Supplier 2: Digi-Key; Supplier Part Number 2: MM145453VXCT-ND; RoHS: N; PinCount: 44; Code_IPC: PLCC-44; ComponentLink1Description: MM145453 Datasheet; ComponentLink1URL: http://www.national.com/ds/MM/MM145453.pdf; ComponentLink2Description: MM145453 Web Page; ComponentLink2URL: http://www.national.com/pf/MM/MM145453.html; ComponentLink3Description: V44A Package Page; ComponentLink3URL: http://www.national.com/packaging/folders/v44a.html
footprint V44A_N (Leaded Chip Carrier, 44-Leads, Body 16.6x16.6mm, Pitch 1.27mm, IPC Medium Density)
footprint V44A_L (Leaded Chip Carrier, 44-Leads, Body 16.6x16.6mm, Pitch 1.27mm, IPC High Density)
footprint V44A_M (Leaded Chip Carrier, 44-Leads, Body 16.6x16.6mm, Pitch 1.27mm, IPC Low Density)
pins: 1 NC, 2 GND (VSS) (power), 3 OUT 17 (out), 4 OUT 16 (out), 5 OUT 15 (out), 6 OUT 14 (out), 7 OUT 13 (out), 8 OUT 12 (out), 9 OUT 11 (out), 10 OUT 10 (out), 11 OUT 9 (out), 12 NC, 13 OUT 8 (out), 14 OUT 7 (out), 15 OUT 6 (out), 16 OUT 5 (out), 17 OUT 4 (out), 18 OUT 3 (out), 19 OUT 2 (out), 20 OUT 1 (out), 21 OSC_IN (in), 22 VDD (power), 23 NC, 24 CLK (in), 25 DATA (in), 26 BP_OUT (out), 27 BP_IN (in), 28 OUT 33 (out), 29 OUT 32 (out), 30 OUT 31 (out), 31 OUT 30 (out), 32 OUT 29 (out), 33 OUT 28 (out), 34 NC, 35 OUT 27 (out), 36 OUT 26 (out), 37 OUT 25 (out), 38 OUT 24 (out), 39 OUT 23 (out), 40 OUT 22 (out), 41 OUT 21 (out), 42 OUT 20 (out), 43 OUT 19 (out), 44 OUT 18 (out)